# Altium footprint library 野火_F103霸道_PCB封装_V2_0.PcbLib: 62 footprints (part 4 of 4)
Each footprint in its own frame and in the unit in brackets; x right, y up, seen from the top. Pads: shape width x height; smd on the part's side, far side on the other; paste and mask are expansions set on the pad; w line width, h text height; cw(c..) or ccw(c..) is an arc to the next point about the centre after c.
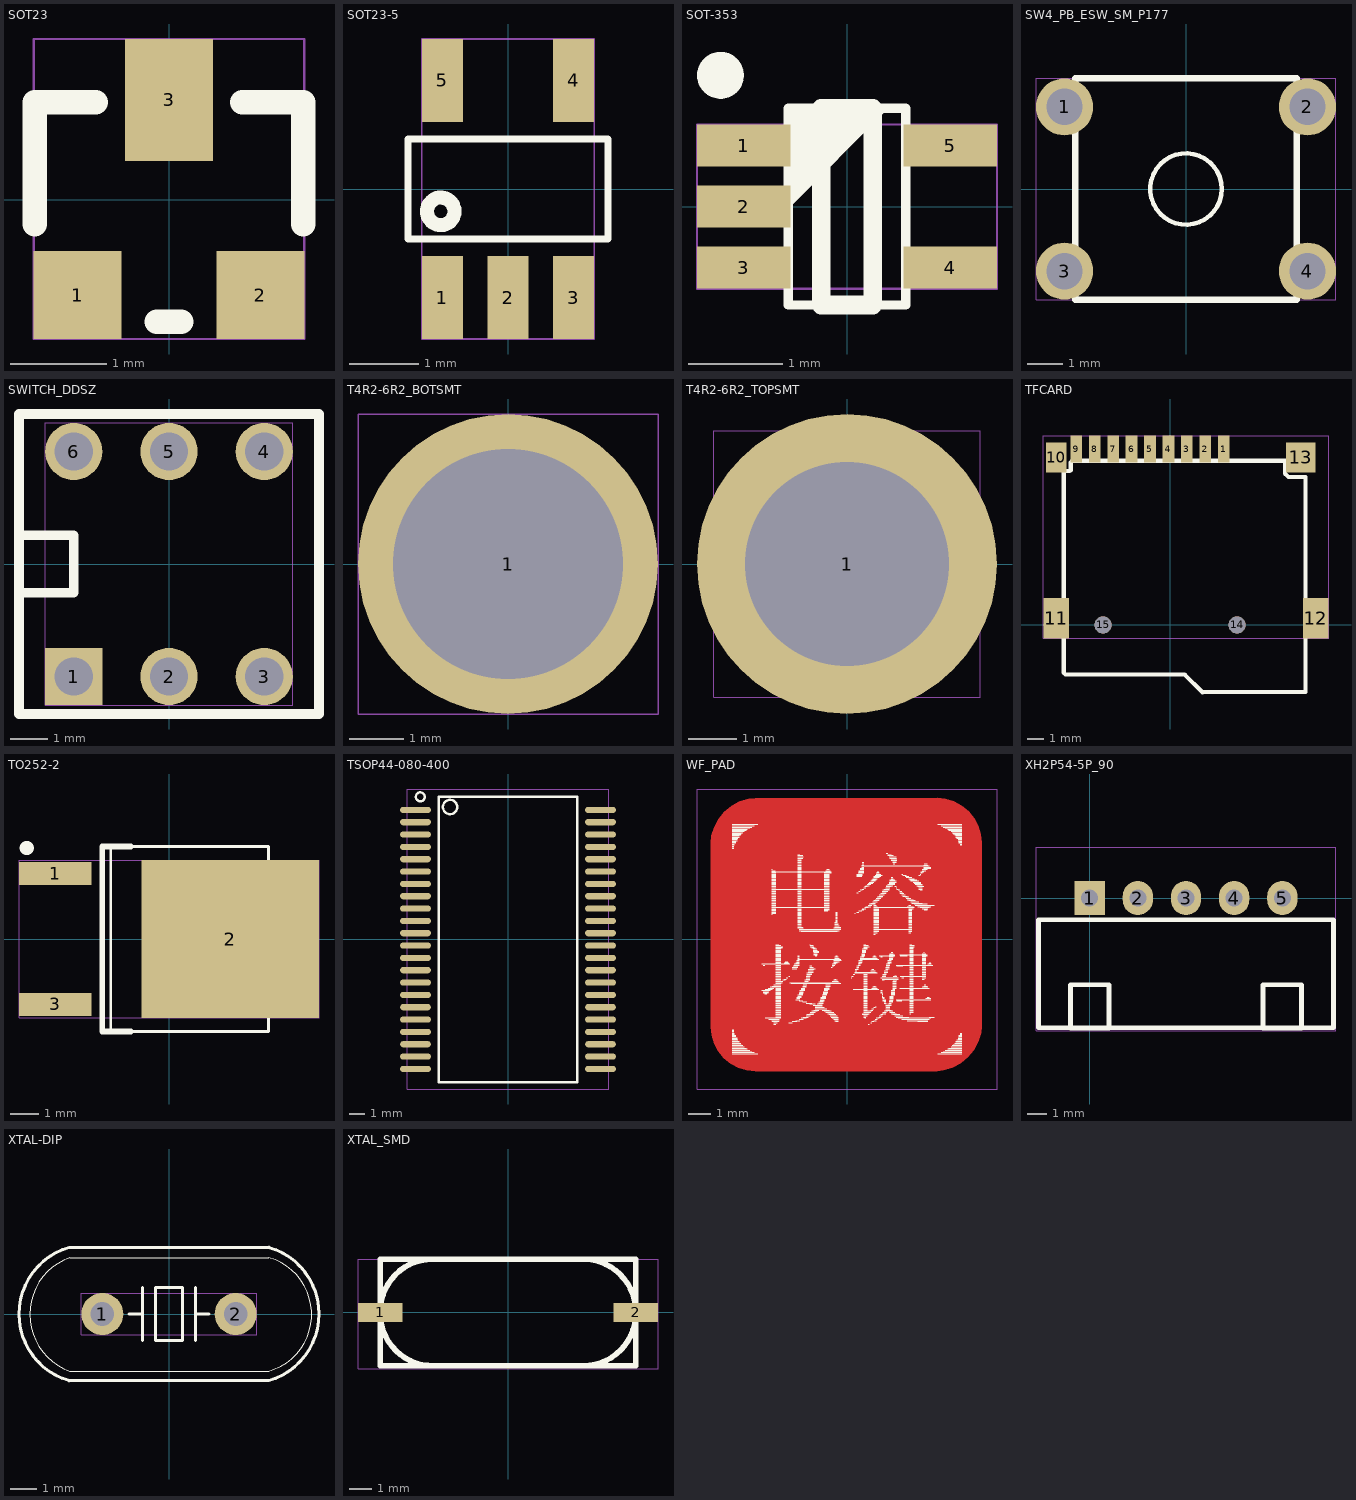
[diagram p3: the footprints below, top view; thin cyan lines are the x and y axes]

## SOT23 [mil]
pads (3):
  rect 36x36 smd mask+1.97: 1(-37.5,-39) 2(37.5,-39)
  rect 36x50 smd mask+1.97: 3(0,41)
Top Overlay:
  lines w10: -55,-10 -55,40 -30,40 ; -5,-50 5,-50 ; 30,40 55,40 55,-10
Top Assembly:
  text "Q6" at 40.35,27.38 h50
Mechanical 20:
  lines w1: -55.5,-57 55.5,-57 55.5,66 -55.5,66 -55.5,-57

## SOT23-5 [mil]
pads (5):
  rect 23.62x47.24 smd mask+1.97: 1(-37.4,-62.01) 2(0,-62.01) 3(37.4,-62.01) 4(37.4,62.01) 5(-37.4,62.01)
Top Overlay:
  circle w8: c-38.4,-12.79 r7.87
  lines w4: -57.09,-28.54 57.09,-28.54 57.09,18.7 57.09,28.54 -57.09,28.54 -57.09,18.7 -57.09,-28.54
Top Assembly:
  text "U2" at 40.23,25 h50
Mechanical 20:
  lines w1: -49.21,-85.63 49.21,-85.63 49.21,85.63 -49.21,85.63 -49.21,-85.63

## SOT-353 [mm]
height 1.092
pads (5):
  rect 1x0.45 smd mask+0.05: 1(-1.1,0.65) 2(-1.1,0) 3(-1.1,-0.65) 4(1.1,-0.65) 5(1.1,0.65)
Top Overlay:
  circle w0.25: c-1.35,1.4 r0.125
  lines w0.1: -0.625,0.05 0.375,1.05 ; -0.625,0.15 0.275,1.05 ; -0.625,0.25 0.175,1.05 ; -0.625,0.35 0.075,1.05 ; -0.625,0.45 -0.025,1.05 ; -0.625,0.55 -0.125,1.05 ; -0.625,0.65 -0.225,1.05 ; -0.625,0.75 -0.325,1.05 ; -0.625,0.85 -0.425,1.05 ; -0.625,0.95 -0.525,1.05 ; -0.625,-1.05 0.625,-1.05 0.625,1.05 -0.625,1.05 -0.625,-1.05
  lines w0.2: -0.275,-1.05 0.275,-1.05 0.275,1.05 -0.275,1.05 -0.275,-1.05
Top Assembly:
  text "U18" at -1.488,-0.635 h1.27
Mechanical 20:
  lines w0.025: -1.6,-0.875 1.6,-0.875 1.6,0.875 -1.6,0.875 -1.6,-0.875

## SW4_PB_ESW_SM_P177 [mil]
pads (4):
  round 63 hole 40 mask+2.5: 1(-133.86,90.55) 2(133.86,90.55) 3(-133.86,-90.55) 4(133.86,-90.55)
Top Overlay:
  circle w5: c0,0 r39.37
  lines w7: -122.05,-122.05 -122.05,122.05 122.05,122.05 122.05,-122.05 -122.05,-122.05
Top Assembly:
  text "SW3" at -67.73,-25 h50
Mechanical 20:
  lines w1: -165.35,-122.05 165.35,-122.05 165.35,122.05 -165.35,122.05 -165.35,-122.05

## SWITCH_DDSZ [mil]
pads (6):
  rect 60x60 / inner round 60 / far side rect 60x60 hole 40 mask+2.5: 1(-100,-118.11)
  round 60 hole 40 mask+2.5: 2(0,-118.11) 3(100,-118.11) 4(100,118.11) 5(0,118.11) 6(-100,118.11)
Top Overlay:
  lines w10: -157.48,-30 -100,-30 -100,30 -157.48,30 ; -157.48,-157.48 157.48,-157.48 157.48,157.48 -157.48,157.48 -157.48,-157.48
Top Assembly:
  text "U1" at -29.52,-25 h50
Mechanical 20:
  lines w1: -130,-148.11 130,-148.11 130,148.11 -130,148.11 -130,-148.11

## T4R2-6R2_BOTSMT [mil]
pads (1):
  round 216.54 / inner round 216.54 / far side round 244.09 hole 166.14 mask+1.97: 1(0,0)
Top Assembly:
  text "H9" at -39.04,-25 h50
Mechanical 20:
  lines w1: -108.27,-108.27 108.27,-108.27 108.27,108.27 -108.27,108.27 -108.27,-108.27

## T4R2-6R2_TOPSMT [mil]
pads (1):
  round 244.09 / inner round 216.54 / far side round 216.54 hole 166.14 mask+1.97: 1(0,0)
Top Assembly:
  text "H8" at -40.23,-25 h50
Mechanical 20:
  lines w1: -108.27,-108.27 108.27,-108.27 108.27,108.27 -108.27,108.27 -108.27,-108.27

## TFCARD [mil]
pads (15):
  rect 27.56x62.99 smd mask+1.97: 1(125.98,413.39) 2(82.67,413.39) 3(39.37,413.39) 4(-3.94,413.39) 5(-47.25,413.39) 6(-90.55,413.39) 7(-133.86,413.39) 8(-177.17,413.39) 9(-220.48,413.39)
  rect 47.24x70 smd mask+1.97: 10(-267.72,393.7)
  rect 60x95 smd mask+1.97: 11(-267.72,15.75) 12(342.52,15.75)
  rect 70x70 smd mask+1.97: 13(307.08,393.7)
  round 40 hole 40 unplated mask+2.5: 14(157.48,0) 15(-157.48,0)
Top Overlay:
  lines w10: -251.72,361.75 -235.72,361.75 -233.72,363.75 -233.72,381.75 -229.72,385.75 270.28,385.75 270.28,355.75 278.28,347.75 318.28,347.75 318.28,-157.48 76.28,-158.25 34.28,-116.25 -245.72,-116.25 -249.72,-112.25 -249.72,359.75 -251.72,361.75
Top Assembly:
  text "J28" at -57.25,-25 h50
Mechanical 20:
  lines w1: -297.72,-31.75 372.52,-31.75 372.52,444.88 -297.72,444.88 -297.72,-31.75

## TO252-2 [mil]
pads (3):
  rect 100.39x31.5 smd mask+1.97: 1(-157.48,90.55) 3(-157.48,-90.55)
  rect 246.06x218.5 smd mask+1.97: 2(84.65,0)
Top Overlay:
  circle w9.84: c-196.85,125.98 r4.92
  lines w3.94: 137.8,-105.04 155.35,-105.04 190.94,-65.59 190.94,65.59 155.35,105.04 137.8,105.04 ; -80.71,-127.95 -80.71,127.95 137.8,127.95 137.8,-127.95 -80.71,-127.95
  lines w7.87: -53.15,-127.95 -92.52,-127.95 -92.52,127.95 -53.15,127.95
Top Assembly:
  text "U3" at -40.23,-25 h50
Mechanical 20:
  lines w1: -207.68,-109.25 207.68,-109.25 207.68,109.25 -207.68,109.25 -207.68,-109.25

## TSOP44-080-400 [mm]
pads (44):
  oval 2x0.4 smd mask+0.05: 1(-6,8.4) 2(-6,7.6) 3(-6,6.8) 4(-6,6) 5(-6,5.2) 6(-6,4.4) 7(-6,3.6) 8(-6,2.8) 9(-6,2) 10(-6,1.2) 11(-6,0.4) 12(-6,-0.4) 13(-6,-1.2) 14(-6,-2) 15(-6,-2.8) 16(-6,-3.6) 17(-6,-4.4) 18(-6,-5.2) 19(-6,-6) 20(-6,-6.8) 21(-6,-7.6) 22(-6,-8.4) 23(6,-8.4) 24(6,-7.6) 25(6,-6.8) 26(6,-6) 27(6,-5.2) 28(6,-4.4) 29(6,-3.6) 30(6,-2.8) 31(6,-2) 32(6,-1.2) 33(6,-0.4) 34(6,0.4) 35(6,1.2) 36(6,2) 37(6,2.8) 38(6,3.6) 39(6,4.4) 40(6,5.2) 41(6,6) 42(6,6.8) 43(6,7.6) 44(6,8.4)
Top Overlay:
  circle w0.152: c-5.69,9.246 r0.29
  circle w0.152: c-3.759,8.585 r0.466
  lines w0.152: -4.5,-9.26 -4.5,9.26 4.5,9.26 4.5,-9.26 -4.5,-9.26
Top Assembly:
  text "U23" at -1.587,-0.635 h1.27
Mechanical 20:
  lines w0.025: -6.528,-9.703 6.528,-9.703 6.528,9.754 -6.528,9.754 -6.528,-9.703

## WF_PAD [mil]
Top Layer:
  region: -241.25,170.89 -240.1,182.59 -235.33,198.34 -227.57,212.85 -217.13,225.57 -204.41,236.01 -189.9,243.77 -174.15,248.54 -162.45,249.69 -162.44,249.62 159.77,249.89 174.19,248.47 189.27,243.9 203.17,236.47 215.35,226.47 225.35,214.29 232.78,200.39 237.35,185.31 238.77,170.89 238.5,170.88 238.54,-155.19 237.47,-166.03 232.63,-181.99 224.76,-196.7 214.18,-209.6 201.28,-220.18 186.57,-228.05 170.61,-232.89 159.77,-233.96 159.76,-233.92 -162.37,-234.28 -177.6,-232.78 -192.51,-228.25 -206.25,-220.91 -218.29,-211.03 -228.17,-198.99 -235.51,-185.25 -240.04,-170.34 -241.52,-155.25 -241.18,-155.18 -241.18,170.88
Top Overlay:
  drawing of 867 lines, arcs and shapes, not listed
Top Assembly:
  text "TPAD1" at -94.98,-25 h50
Mechanical 20:
  lines w1: -265.75,-265.75 265.75,-265.75 265.75,265.75 -265.75,265.75 -265.75,-265.75

## XH2P54-5P_90 [mil]
pads (5):
  rect 62.99x70.87 hole 35.43 mask+1.97: 1(0,0)
  oval 62.99x70.87 hole 35.43 mask+1.97: 2(100,0) 3(200,0) 4(300,0) 5(400,0)
Top Overlay:
  lines w10: -106.3,-269.37 -106.3,-45 506.3,-45 506.3,-269.37 -106.3,-269.37 ; -40,-270 -40,-180 40,-180 40,-270 -40,-270 ; 360,-270 360,-180 440,-180 440,-270 360,-270
Top Assembly:
  text "J2" at 35,25 h50
Mechanical 20:
  lines w1: -111.3,-275 -111.3,105 511.3,105 511.3,-275 -111.3,-275

## XTAL-DIP [mil]
pads (2):
  round 62.99 hole 35.43 mask+2: 1(-100,0) 2(100,0)
Top Overlay:
  lines w1: 149.45,-85.69 ccw(c125.85,-0.59) 149.6,84.47 ; 149.53,-85.67 -148.7,-85.67 cw(c-118.91,-0.59) -148.7,84.49 149.53,84.49
  lines w4.72: -150.08,99.98 ccw(c-120.85,0) -149.91,-100.03 ; -150,-100 150,-100 ; -150,100 150,100 ; -60,0 -40,0 ; -40,-40 -40,40 ; 40,-40 40,40 ; 40,0 60,0 ; 149.91,100.03 cw(c120.85,0) 150.08,-99.98 ; -20,-40 -20,40 20,40 20,-40 -20,-40
Top Assembly:
  text "Y9" at -37.73,-25 h50
Mechanical 20:
  lines w1: -131.5,-31.5 131.5,-31.5 131.5,31.5 -131.5,31.5 -131.5,-31.5

## XTAL_SMD [mm]
pads (2):
  rect 2x0.85 smd mask+0.05: 1(-5.75,0) 2(5.75,0)
Top Overlay:
  lines w0.254: -5.75,-0.069 -5.75,0 ; -5.75,-0.068 ccw(c-3.385,-0.035) -3.352,-2.4 ; -5.75,0.002 cw(c-3.385,0.035) -3.418,2.4 ; 3.352,2.4 cw(c3.385,0.035) 5.75,0.068 ; 3.418,-2.4 ccw(c3.385,-0.035) 5.75,-0.002 ; 5.75,0 5.75,0.069 ; -5.75,-2.4 -5.75,2.4 5.75,2.4 5.75,-2.4 -5.75,-2.4
Top Assembly:
  text "Y10" at -1.454,-0.635 h1.27
Mechanical 20:
  lines w0.025: -6.75,-2.54 -6.75,2.4 6.75,2.4 6.75,-2.54 -6.75,-2.54